# EAGLE library part 6318977-3 (library 6318977-3)
Board-to-Board, 6 Position, 2.5 mm [.098 in] Centerline, Plug, 30 VDC, Right Angle, Printed Circuit Board, Power & Signal, DC Jack Connectors Source: Datasheet <https://www.te.com/commerce/DocumentDelivery/DDEController?Action=srchrtrv&DocNm=6318977&DocType=Customer Drawing&DocLang=English&PartCntxt=6318977-3&DocFormat=pdf>
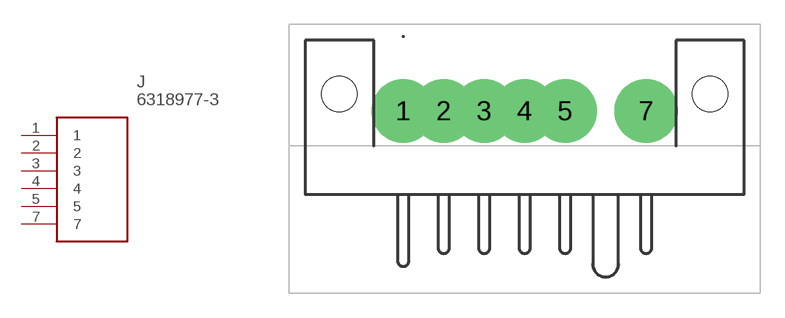
[diagram p0: symbol with the pads of 63189773; footprint 63189773]

Designator prefix J

## 6318977-3 (Description: Board-to-Board, 6 Position, 2.5 mm [.098 in] Centerline, Plug, 30 VDC, Right Angle, Printed Circuit Board, Power & Signal, DC Jack Connectors; Height: 4.95mm; Manufacturer_Name: TE Connectivity; Manufacturer_Part_Number: 6318977-3)  [63189773]
1  1
2  2
3  3
4  4
5  5
7  7

## Footprint 63189773 (pad centres in mm)
6318977-3-3
drill 1.4 pad 3.9: 1 -7.5,2.95; 2 -5,2.95; 3 -2.5,2.95; 4 0,2.95; 5 2.5,2.95; 7 7.5,2.95
hole 2.2 at -11.45,4
hole 2.2 at 11.45,4